# EAGLE library part I__4027 (library ..SMD)
Dual JK FLIP FLOP
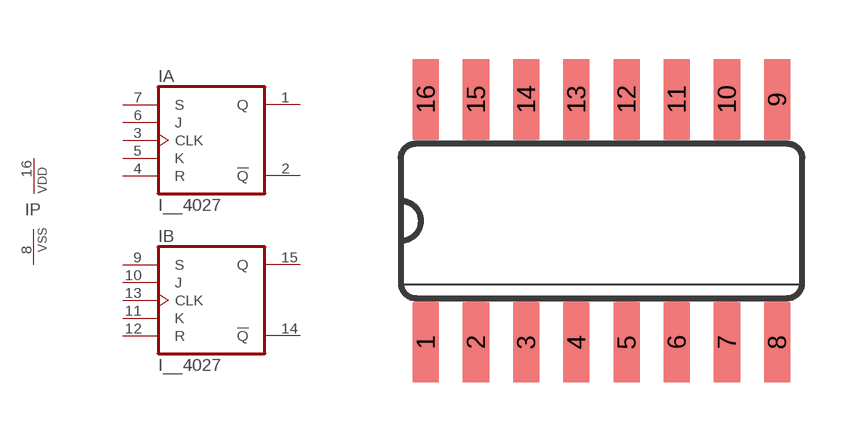
[diagram p30: symbol with the pads of SO16; footprint SO16]

Designator prefix I; gates A=4027 B=4027 P=PWRN

## I__4027D  [SO16]
1  A:Q  out
2  A:!Q  out
3  A:CLK  in
4  A:R  in
5  A:K  in
6  A:J  in
7  A:S  in
8  P:VSS  pwr
9  B:S  in
10  B:J  in
11  B:K  in
12  B:R  in
13  B:CLK  in
14  B:!Q  out
15  B:Q  out
16  P:VDD  pwr

## Footprint SO16 (pad centres in mm)
Small Outline Package 16
smd 0.66 x 2.032: 1 -4.445,-3.073; 2 -3.175,-3.073; 3 -1.905,-3.073; 4 -0.635,-3.073; 5 0.635,-3.073; 6 1.905,-3.073; 7 3.175,-3.073; 8 4.445,-3.073; 9 4.445,3.073; 10 3.175,3.073; 11 1.905,3.073; 12 0.635,3.073; 13 -0.635,3.073; 14 -1.905,3.073; 15 -3.175,3.073; 16 -4.445,3.073